# EAGLE library part 431181008816 (library Wurth_Elektronik_Electromechanic_Switch_rev16b)
5x5 mm SMD with ground terminal WS-TASV <http://katalog.we-online.de/media/images/v2/Family_WS-TASV_Normal_SMD_4311x10xx8x6.jpg> Details see: http://katalog.we-online.de/en/em/TASV_5X5_SMD_WITH_GROUND_TERMINAL_4311x10xx8x6 2015 (C) Wurth Elektronik
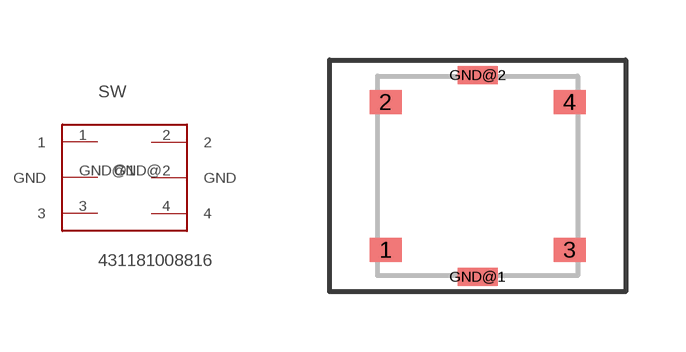
[diagram p108: symbol with the pads of 431181008816; footprint 431181008816]

Designator prefix SW

## 431181008816  [431181008816]
1  1
2  2
3  3
4  4
GND@1  GND
GND@2  GND

## Footprint 431181008816 (pad centres in mm)
WS-TSS-5x5 mm SMD Tact Switch with ground terminal, 4 pins
smd 0.8 x 0.6: 1 -2.3,-1.85; 2 -2.3,1.85; 3 2.3,-1.85; 4 2.3,1.85
smd 1 x 0.45: GND@1 0,-2.525; GND@2 0,2.525